# EAGLE library part USB4120-03-C_REVA (library USB4120-03-C_REVA)
Check availability <https://pricing.snapeda.com/parts/USB4120-03-C/Global%20Connector%20Technology/view-part?ref=eda>
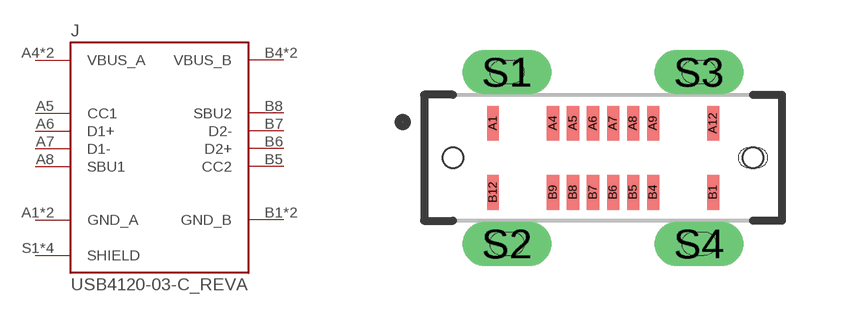
[diagram p0: symbol with the pads of GCT_USB4120-03-C_REVA; footprint GCT_USB4120-03-C_REVA]

Designator prefix J

## USB4120-03-C_REVA (Availability: In Stock; Description: USB 2.0 Connector Type C Vertical Receptacle, 6.50mm profile, 16 Pins, Surface mount, Top mount, low profile, low cost; MF: Global Connector Technology; MP: USB4120-03-C; Package: None; Price: None; Purchase-URL: https://pricing.snapeda.com/search/part/USB4120-03-C/?ref=eda)  [GCT_USB4120-03-C_REVA]
A1  GND_A  pwr
A4  VBUS_A  pwr
A5  CC1
A6  D1+
A7  D1-
A8  SBU1
A9  VBUS_A  pwr
A12  GND_A  pwr
B1  GND_B  pwr
B4  VBUS_B  pwr
B5  CC2
B6  D2+
B7  D2-
B8  SBU2
B9  VBUS_B  pwr
B12  GND_B  pwr
S1  SHIELD  pas
S2  SHIELD  pas
S3  SHIELD  pas
S4  SHIELD  pas

## Footprint GCT_USB4120-03-C_REVA (pad centres in mm)
smd 0.3 x 0.87: A1 -2.75,0.865; A4 -1.25,0.865; A5 -0.75,0.865; A6 -0.25,0.865; A7 0.25,0.865; A8 0.75,0.865; A9 1.25,0.865; A12 2.75,0.865; B1 2.75,-0.865; B4 1.25,-0.865; B5 0.75,-0.865; B6 0.25,-0.865; B7 -0.25,-0.865; B8 -0.75,-0.865; B9 -1.25,-0.865; B12 -2.75,-0.865
drill 0.6 pad 1.1 long: S1 -2.4,2.15; S2 -2.4,-2.15; S3 2.4,2.15; S4 2.4,-2.15
hole 0.52 at -3.75,0
hole 0.52 at 3.75,0